# EAGLE library part 24C65-I/P (library Microchip_By_element14_Batch_1)
Smart Serial EEPROM
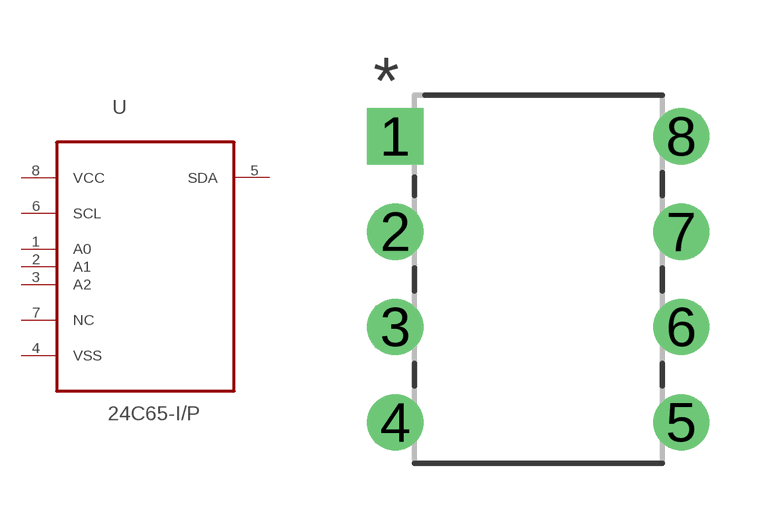
[diagram p22: symbol with the pads of DIP254P762X432-8; footprint DIP254P762X432-8]

Designator prefix -

## 24C65-I/P (MPN: 24C65-I/P; OC_FARNELL: 9757830; OC_NEWARK: 92C6986; PACKAGE: DIP-8; SUPPLIER: Microchip)  [DIP254P762X432-8]
1  A0  in
2  A1  in
3  A2  in
4  VSS  pas
5  SDA
6  SCL  in
7  NC  nc
8  VCC  pwr

## Footprint DIP254P762X432-8 (pad centres in mm)
drill 0.991 square: 1 -7.62,7.62
drill 0.991: 2 -7.62,5.08; 3 -7.62,2.54; 4 -7.62,0; 5 0,0; 6 0,2.54; 7 0,5.08; 8 0,7.62